# Altium schematic symbol library LED-11103-03_T5.SchLib: 1 symbol
Pins are listed as number, name and electrical type; pins without a type are passive.

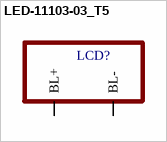
[diagram p0: symbol LED-11103-03_T5]

## LED-11103-03_T5
designator LCD?
pins: 1 BL+, 2 BL-